# EAGLE library part AEM10941 (library PP_PowerIC)
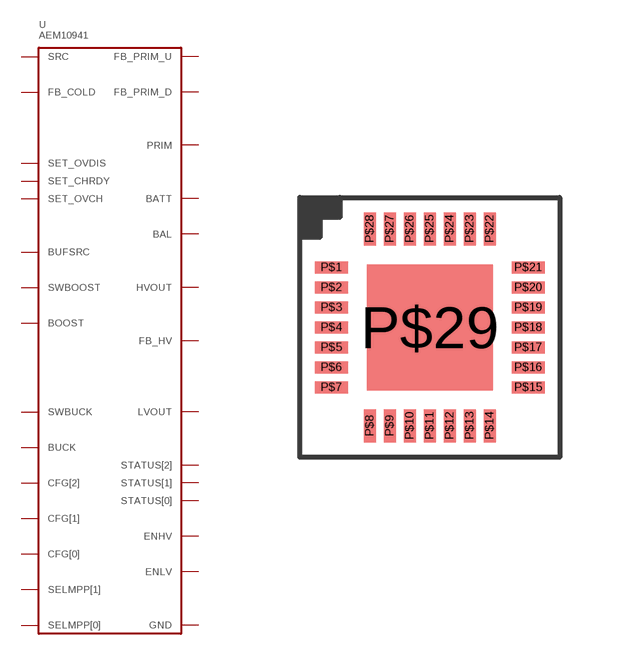
[diagram p19: symbol with the pads of AEM10941_QFN-28; footprint AEM10941_QFN-28]

Designator prefix U

## AEM10941 (MPN: AEM10941)  [AEM10941_QFN-28]
P$1  BOOST
P$2  SWBUCK
P$3  BUCK
P$4  CFG[2]
P$5  CFG[1]
P$6  CFG[0]
P$7  SELMPP[1]
P$8  SELMPP[0]
P$9  FB_PRIM_D
P$10  FB_PRIM_U
P$11  LVOUT
P$12  ENHV
P$13  FB_HV
P$14  HVOUT
P$15  BAL
P$16  BATT
P$17  PRIM
P$18  ENLV
P$19  STATUS[2]
P$20  STATUS[1]
P$21  STATUS[0]
P$22  SET_OVCH
P$23  SET_CHRDY
P$24  SET_OVDIS
P$25  SRC
P$26  FB_COLD
P$27  BUFSRC
P$28  SWBOOST
P$29  GND

## Footprint AEM10941_QFN-28 (pad centres in mm)
smd 0.825 x 0.3: P$1 -2.462,1.5; P$2 -2.462,1; P$3 -2.462,0.5; P$4 -2.462,0; P$5 -2.462,-0.5; P$6 -2.462,-1; P$7 -2.462,-1.5; P$15 2.462,-1.5; P$16 2.462,-1; P$17 2.462,-0.5; P$18 2.462,0; P$19 2.462,0.5; P$20 2.462,1; P$21 2.462,1.5
smd 0.3 x 0.825: P$8 -1.5,-2.462; P$9 -1,-2.462; P$10 -0.5,-2.462; P$11 0,-2.462; P$12 0.5,-2.462; P$13 1,-2.462; P$14 1.5,-2.462; P$22 1.5,2.462; P$23 1,2.462; P$24 0.5,2.462; P$25 0,2.462; P$26 -0.5,2.462; P$27 -1,2.462; P$28 -1.5,2.462
smd 3.15 x 3.15: P$29 0,0